# Altium footprint library CONN D-SUB25.PcbLib: 1 footprints
Each footprint in its own frame and in the unit in brackets; x right, y up, seen from the top. Pads: shape width x height; smd on the part's side, far side on the other; paste and mask are expansions set on the pad; w line width, h text height; cw(c..) or ccw(c..) is an arc to the next point about the centre after c.
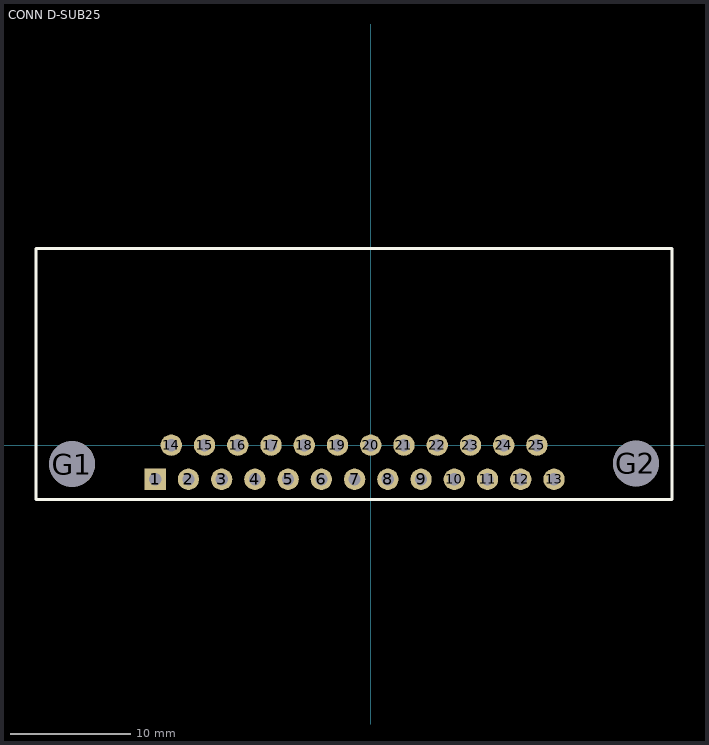
[diagram p0: the footprint, top view; thin cyan lines are the x and y axes]

## CONN D-SUB25 [mil] "25 Pin DB Connector"
pads (27):
  rect 70x70 hole 40: 1(-707.3,-111)
  round 70 hole 40: 2(-598.25,-111) 3(-489.2,-111) 4(-380.15,-111) 5(-271.1,-111) 6(-162.05,-111) 7(-53,-111) 8(56.05,-111) 9(165.1,-111) 10(274.15,-111) 11(383.2,-111) 12(492.25,-111) 13(601.3,-111) 14(-654.4,1) 15(-545.35,1) 16(-436.3,1) 17(-327.25,1) 18(-218.2,1) 19(-109.15,1) 20(-0.1,1) 21(108.95,1) 22(218,1) 23(327.05,1) 24(436.1,1) 25(545.15,1)
  round 150 hole 150: G1(-980,-61) G2(870,-59)
Top Overlay:
  lines w10: -1099,645 -1099,633 -1099,301 -1098,300 -1098,-69 -1098,-177 989,-177 989,646 440,646 -890,646 -1098,646
3D body: height 497.05, standoff -167.32, extent -1099.19,-176.42 989,626.26